# Altium integrated library 2-1445050-3.IntLib: 2 symbols
Pins are listed as number, name and electrical type; pins without a type are passive.

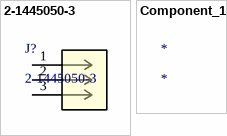
[diagram p0: symbols 2-1445050-3 to Component_1]

## 2-1445050-3
designator J?
MICRO MNL HDR ASSY S/ROW LF; Built_By: Digital_Papaya_Team; Vendor: TE Connectivity; ROWS/CONFIG: 1; PITCH(MM): 3; SourceLibrary: TE_Connectivity_250_Part_Delivery_5_2018-09-10; Copyright: Copyright (C) 2016 Accelerated Designs. All rights reserved; Manufacturer_Part_Number: 2-1445050-3; TE_Part_Number: 2-1445050-3; PRODUCT: Header; Type: DEV; POSITIONS: 3; Datasheet: https://www.te.com/commerce/DocumentDelivery/DDEController?Action=showdoc&DocId=Customer+Drawing%7F1445050%7FB5%7Fpdf%7FEnglish%7FENG_CD_1445050_B5.pdf%7F2-1445050-2; RefDes: RefDes
footprint conn3_2-1445050-3_TEC
pins: 1, 2, 3

## Component_1
designator *